# Altium schematic symbol library EL_Wire_Harness_Electric.SchLib: 55 symbols
Pins are listed as number, name and electrical type; pins without a type are passive.

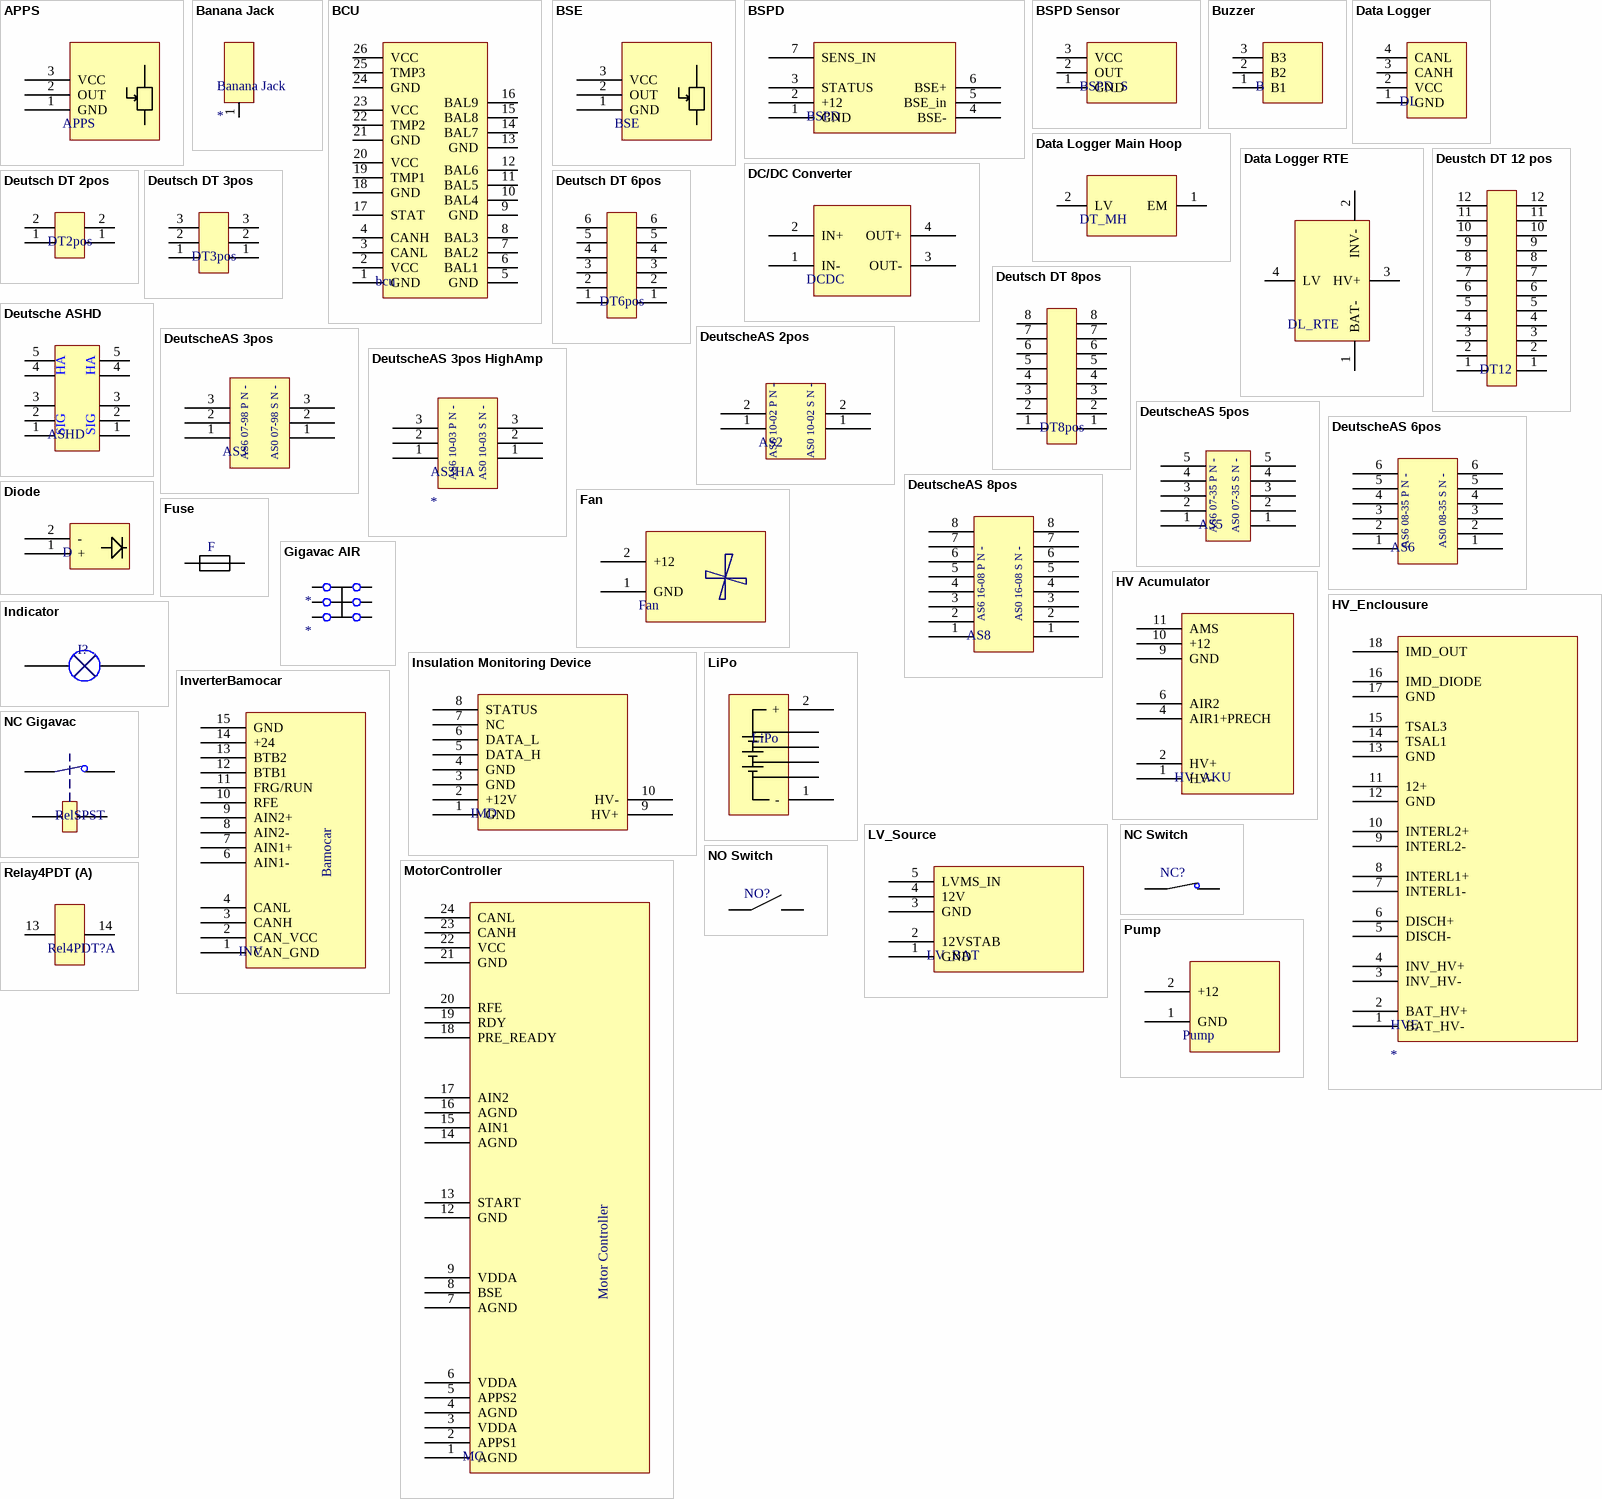
[diagram p0: symbols APPS to Relay4PDT]

## APPS
designator APPS  (value not drawn)
pins: 1 GND, 2 OUT, 3 VCC

## Banana Jack
designator Banana Jack
pins: 1

## BCU
designator bcu  (value not drawn)
pins: 1 GND, 2 VCC, 3 CANL, 4 CANH, 5 GND, 6 BAL1, 7 BAL2, 8 BAL3, 9 GND, 10 BAL4, 11 BAL5, 12 BAL6, 13 GND, 14 BAL7, 15 BAL8, 16 BAL9, 17 STAT, 18 GND, 19 TMP1, 20 VCC, 21 GND, 22 TMP2, 23 VCC, 24 GND, 25 TMP3, 26 VCC

## BSE
designator BSE  (value not drawn)
pins: 1 GND, 2 OUT, 3 VCC

## BSPD
designator BSPD  (value not drawn)
pins: 1 GND, 2 +12, 3 STATUS, 4 BSE-, 5 BSE_in, 6 BSE+, 7 SENS_IN

## BSPD Sensor
designator BSPD_S  (value not drawn)
pins: 1 GND, 2 OUT, 3 VCC

## Buzzer
designator B  (value not drawn)
pins: 1 B1, 2 B2, 3 B3

## Data Logger
designator DL  (value not drawn)
pins: 1 GND, 2 VCC, 3 CANH, 4 CANL

## Data Logger Main Hoop
designator DT_MH  (value not drawn)
pins: 1 EM, 2 LV

## Data Logger RTE
designator DL_RTE  (value not drawn)
pins: 1 BAT-, 2 INV-, 3 HV+, 4 LV

## DC/DC Converter
designator DCDC  (value not drawn)
pins: 1 IN-, 2 IN+, 3 OUT-, 4 OUT+

## Deustch DT 12 pos
designator DT12  (value not drawn)
pins: 1, 1 13, 2, 2 14, 3, 3 15, 4, 4 16, 5, 5 17, 6, 6 18, 7, 7 19, 8, 8 20, 9, 9 21, 10, 10 22, 11, 11 23, 12, 12 24

## Deutsch DT 2pos
designator DT2pos  (value not drawn)
pins: 1 25, 1 27, 2 26, 2 28

## Deutsch DT 3pos
designator DT3pos  (value not drawn)
pins: 1 29, 1 32, 2 30, 2 33, 3 31, 3 34

## Deutsch DT 6pos
designator DT6pos  (value not drawn)
pins: 1 35, 1 41, 2 36, 2 42, 3 37, 3 43, 4 38, 4 44, 5 39, 5 45, 6 40, 6 46

## Deutsch DT 8pos
designator DT8pos  (value not drawn)
pins: 1, 1, 2, 2, 3, 3, 4, 4, 5, 5, 6, 6, 7, 7, 8, 8

## Deutsche ASHD
designator ASHD  (value not drawn)
pins: 1 Signal, 1 Signal, 2 Signal, 2 Signal, 3 Signal, 3 Signal, 4 Signal, 4 Signal, 5 Signal, 5 Signal
text: HA; SIG

## DeutscheAS 2pos
designator AS2  (value not drawn)
pins: 1 T4b, 1 T4b, 2 T4b, 2 T4b
text: AS6 10-02 P N -; AS0 10-02 S N -

## DeutscheAS 3pos
designator AS3  (value not drawn)
pins: 1 T4b, 1 T4b, 2 T4b, 2 T4b, 3 T4b, 3 T4b
text: AS6 07-98 P N -; AS0 07-98 S N -

## DeutscheAS 3pos HighAmp
designator AS3HA
pins: 1 T4b, 1 T4b, 2 T4b, 2 T4b, 3 T4b, 3 T4b
text: AS6 10-03 P N -; AS0 10-03 S N -

## DeutscheAS 5pos
designator AS5  (value not drawn)
pins: 1 T4b, 1 6, 2 T4b, 2 7, 3 T4b, 3 8, 4, 4 9, 5, 5 6
text: AS6 07-35 P N -; AS0 07-35 S N -

## DeutscheAS 6pos
designator AS6  (value not drawn)
pins: 1 T4b, 1 T4b, 2 T4b, 2 T4b, 3 T4b, 3 T4b, 4 T4b, 4 T4b, 5 T4b, 5 T4b, 6 T4b, 6 T4b
text: AS6 08-35 P N -; AS0 08-35 S N -

## DeutscheAS 8pos
designator AS8  (value not drawn)
pins: 1 -, 1 -, 2 -, 2 -, 3 -, 3 -, 4 -, 4 -, 5 -, 5 -, 6 -, 6 -, 7 -, 7 -, 8 -, 8 -
text: AS6 16-08 P N -; AS0 16-08 S N -

## Diode
designator D  (value not drawn)
pins: 1 +, 2 -

## Fan
designator Fan  (value not drawn)
pins: 1 GND, 2 +12

## Fuse
designator F  (value not drawn)
pins: 1, 3

## Gigavac AIR
designator *
pins: 9 -, 9 -, 9 -, 9 -, 9 -, 9 -, 10 -, 10 -, 10 -, 10 -, 10 -, 10 -

## HV Acumulator
designator HV_AKU  (value not drawn)
pins: 1 HV-, 2 HV+, 4 AIR1+PRECH, 6 AIR2, 9 GND, 10 +12, 11 AMS

## HV_Enclousure
designator HVE
pins: 1 BAT_HV-, 2 BAT_HV+, 3 INV_HV-, 4 INV_HV+, 5 DISCH-, 6 DISCH+, 7 INTERL1-, 8 INTERL1+, 9 INTERL2-, 10 INTERL2+, 11 12+, 12 GND, 13 GND, 14 TSAL1, 15 TSAL3, 16 IMD_DIODE, 17 GND, 18 IMD_OUT

## Indicator
designator I?  (value not drawn)
pins: 6, 7

## Insulation Monitoring Device
designator IMD  (value not drawn)
pins: 1 GND, 2 +12V, 3 GND, 4 GND, 5 DATA_H, 6 DATA_L, 7 NC, 8 STATUS, 9 HV+, 10 HV-

## InverterBamocar
designator INV  (value not drawn)
pins: 1 CAN_GND, 2 CAN_VCC, 3 CANH, 4 CANL, 6 AIN1-, 7 AIN1+, 8 AIN2-, 9 AIN2+, 10 RFE, 11 FRG/RUN, 12 BTB1, 13 BTB2, 14 +24, 15 GND
text: Bamocar

## LiPo
designator LiPo  (value not drawn)
pins: 1 -, 2 +, 3, 4, 5, 6

## LV_Source
designator LV_BAT  (value not drawn)
pins: 1 GND, 2 12VSTAB, 3 GND, 4 12V, 5 LVMS_IN

## MotorController
designator MC  (value not drawn)
pins: 1 AGND, 2 APPS1, 3 VDDA, 4 AGND, 5 APPS2, 6 VDDA, 7 AGND, 8 BSE, 9 VDDA, 12 GND, 13 START, 14 AGND, 15 AIN1, 16 AGND, 17 AIN2, 18 PRE_READY, 19 RDY, 20 RFE, 21 GND, 22 VCC, 23 CANH, 24 CANL
text: Motor Controller

## NC Gigavac
designator RelSPST  (value not drawn)
pins: 7 1, 8 2, 9, 10

## NC Switch
designator NC?  (value not drawn)
pins: 13 -, 14 -

## NO Switch
designator NO?  (value not drawn)
pins: 11 -, 12 -

## Pump
designator Pump  (value not drawn)
pins: 1 GND, 2 +12

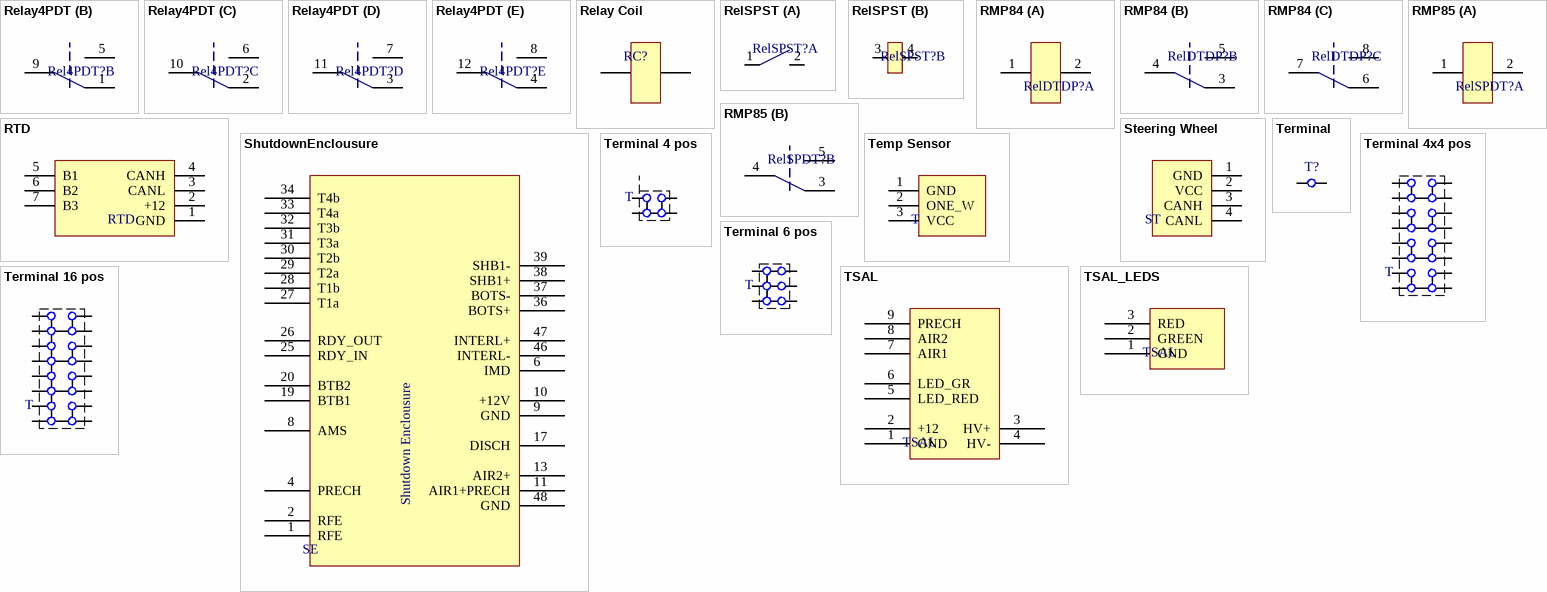
[diagram p1: symbols Relay4PDT to TSAL_LEDS]

## Relay4PDT
designator Rel4PDT?  (value not drawn)
part A pins: 13 A1, 14 A2
part B pins: 1 3, 5, 9 200
part C pins: 2 3, 6 5, 10 200
part D pins: 3, 7 5, 11 200
part E pins: 4 3, 8 5, 12 200

## Relay Coil
designator RC?  (value not drawn)
pins: *, *

## RelSPST
designator RelSPST?  (value not drawn)
part A pins: 1, 2
part B pins: 3, 4

## RMP84
designator RelDTDP?  (value not drawn)
part A pins: 1 A1, 2 A2
part B pins: 3, 4 200, 5
part C pins: 6 3, 7 4, 8 5

## RMP85
designator RelSPDT?  (value not drawn)
part A pins: 1 A1, 2 A2
part B pins: 3, 4, 5

## RTD
designator RTD  (value not drawn)
pins: 1 GND, 2 +12, 3 CANL, 4 CANH, 5 B1, 6 B2, 7 B3

## ShutdownEnclousure
designator SE  (value not drawn)
pins: 1 RFE, 2 RFE, 4 PRECH, 6 IMD, 8 AMS, 9 GND, 10 +12V, 11 AIR1+PRECH, 13 AIR2+, 17 DISCH, 19 BTB1, 20 BTB2, 25 RDY_IN, 26 RDY_OUT, 27 T1a, 28 T1b, 29 T2a, 30 T2b, 31 T3a, 32 T3b, 33 T4a, 34 T4b, 36 BOTS+, 37 BOTS-, 38 SHB1+, 39 SHB1-, 46 INTERL-, 47 INTERL+, 48 GND
text: Shutdown Enclousure

## Steering Wheel
designator ST  (value not drawn)
pins: 1 GND, 2 VCC, 3 CANH, 4 CANL

## Temp Sensor
designator T  (value not drawn)
pins: 1 GND, 2 ONE_W, 3 VCC

## Terminal
designator T?  (value not drawn)
pins: 9 -, 10 -

## Terminal 4 pos
designator T  (value not drawn)
pins: 9 -, 9 -, 9 -, 9 -

## Terminal 4x4 pos
designator T  (value not drawn)
pins: 0, 0, 0, 0, 0, 0, 0, 0, 0, 0, 0, 0, 0, 0, 0, 0

## Terminal 6 pos
designator T  (value not drawn)
pins: 9 -, 9 -, 9 -, 9 -, 9 -, 9 -

## Terminal 16 pos
designator T  (value not drawn)
pins: 0, 0, 0, 0, 0, 0, 0, 0, 0, 0, 0, 0, 0, 0, 0, 0

## TSAL
designator TSAL  (value not drawn)
pins: 1 GND, 2 +12, 3 HV+, 4 HV-, 5 LED_RED, 6 LED_GR, 7 AIR1, 8 AIR2, 9 PRECH

## TSAL_LEDS
designator TSAL  (value not drawn)
pins: 1 GND, 2 GREEN, 3 RED